# Altium schematic symbol library SCH_lib.SchLib: 19 symbols
Pins are listed as number, name and electrical type; pins without a type are passive.

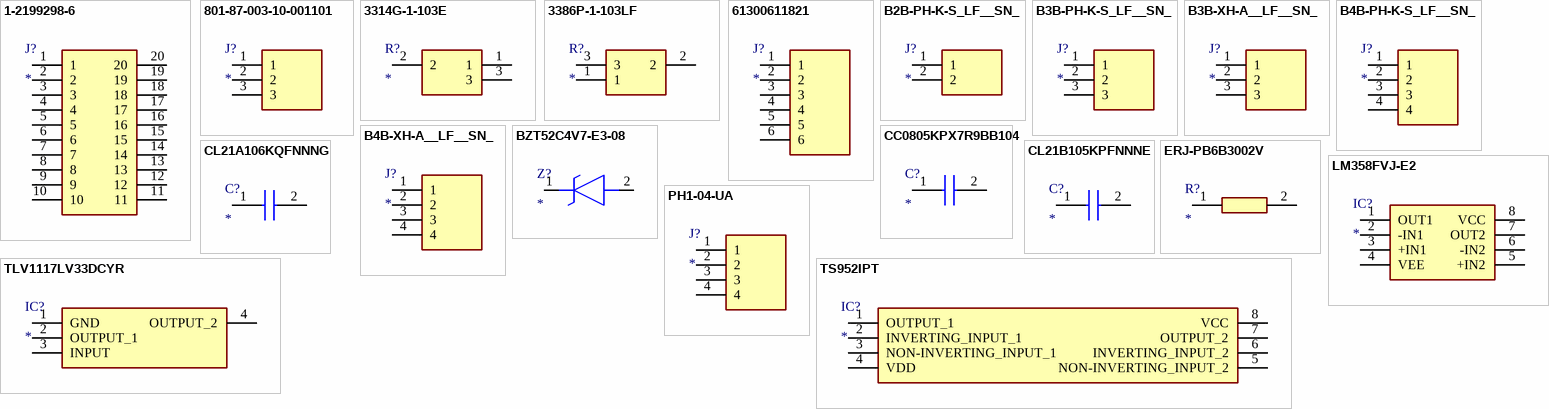
[diagram p0: symbols 1-2199298-6 to TS952IPT]

## 1-2199298-6
designator J?
Connector; Manufacturer_Name: TE Connectivity; Manufacturer_Part_Number: 1-2199298-6; Datasheet Link: https://www.te.com/commerce/DocumentDelivery/DDEController?Action=showdoc&DocId=Customer+Drawing%7F2199298%7FA%7Fpdf%7FEnglish%7FENG_CD_2199298_A_baseFilename.pdf%7F1-2199298-6; Height: 5.1mm; Mouser Part Number: 571-1-2199298-6; Mouser Price/Stock: https://www.mouser.co.uk/ProductDetail/TE-Connectivity/1-2199298-6?qs=fK8dlpkaUMvuMXpJTs4GlA%3D%3D; Arrow Part Number: 1-2199298-6; Arrow Price/Stock: https://www.arrow.com/en/products/1-2199298-6/te-connectivity?region=europe
footprint DIPS762W70P254L2540H510Q20N
pins: 1, 2, 3, 4, 5, 6, 7, 8, 9, 10, 11, 12, 13, 14, 15, 16, 17, 18, 19, 20

## 801-87-003-10-001101
designator J?
Connector; Manufacturer_Name: Preci-Dip; Manufacturer_Part_Number: 801-87-003-10-001101; Datasheet Link: http://www.precidip.com/en/Products/PCB-Connectors/pview/801-PP-NNN-10-001101.html; Height: 7mm; Mouser Part Number: 437-8018700310001101; Mouser Price/Stock: https://www.mouser.co.uk/ProductDetail/Preci-dip/801-87-003-10-001101?qs=FtMuP6KVi2T66jAxB5rZkg%3D%3D; Arrow Part Number: 801-87-003-10-001101; Arrow Price/Stock: https://www.arrow.com/en/products/801-87-003-10-001101/preci-dip-sa
footprint RHDR3W60P0X254_1X3_762X254X700P
pins: 1, 2, 3

## 3314G-1-103E
designator R?
Resistor; Manufacturer_Name: Bourns; Manufacturer_Part_Number: 3314G-1-103E; Description: 3314G SMT top adj cermet trimmer,10K 4mm Bourns 3314G Series SMD Cermet Trimmer Resistor with Gull Wing Terminations; Datasheet Link: https://componentsearchengine.com/Datasheets/2/3314G-1-103E.pdf; Mouser Part Number: 652-3314G-1-103E; Mouser Price/Stock: https://www.mouser.co.uk/ProductDetail/Bourns/3314G-1-103E?qs=5DXzRwmrLHHE6mxfh4g4uw%3D%3D; Arrow Part Number: 3314G-1-103E; Arrow Price/Stock: https://www.arrow.com/en/products/3314g-1-103e/bourns?region=europe
footprint 3314G-1-102E
pins: 1, 2, 3

## 3386P-1-103LF
designator R?
Resistor; Manufacturer_Name: Bourns; Manufacturer_Part_Number: 3386P-1-103LF; Description: Bourns 3386P Series Through Hole Trimmer Resistor with Pin Terminations; Datasheet Link: https://www.bourns.com/pdfs/3386.pdf; Mouser Part Number: 652-3386P-1-103LF; Mouser Price/Stock: https://www.mouser.co.uk/ProductDetail/Bourns/3386P-1-103LF?qs=m2uG%2FFdTAPWTJ6kNGJOVuA%3D%3D; Arrow Part Number: 3386P-1-103LF; Arrow Price/Stock: https://www.arrow.com/en/products/3386p-1-103lf/bourns?region=europe
footprint 3386P_1
pins: 1, 2, 3

## 61300611821
designator J?
Connector; Manufacturer_Name: Wurth Elektronik; Manufacturer_Part_Number: 61300611821; Datasheet Link: https://www.we-online.de/katalog/datasheet/61300611821.pdf; Height: 8.65mm; Mouser Part Number: 710-61300611821; Mouser Price/Stock: https://www.mouser.co.uk/ProductDetail/Wurth-Elektronik/61300611821?qs=iLbezkQI%252BsgS21jF2eozhA%3D%3D
footprint RHDR6W97P0X254_1X6_1574X250X865P
pins: 1, 2, 3, 4, 5, 6

## B2B-PH-K-S_LF__SN_
designator J?
Connector; Manufacturer_Name: JST (JAPAN SOLDERLESS TERMINALS); Manufacturer_Part_Number: B2B-PH-K-S(LF)(SN); Datasheet Link: https://datasheet.lcsc.com/szlcsc/JST-Sales-America-B2B-PH-K-S-LF-SN_C131337.pdf; Height: 6mm; Arrow Part Number: B2B-PH-K-S(LF)(SN); Arrow Price/Stock: https://www.arrow.com/en/products/b2b-ph-k-s-lf-sn/jst-manufacturing?region=europe
footprint SHDR2W50P0X200_1X2_590X450X600P
pins: 1, 2

## B3B-PH-K-S_LF__SN_
designator J?
Connector; Manufacturer_Name: JST (JAPAN SOLDERLESS TERMINALS); Manufacturer_Part_Number: B3B-PH-K-S(LF)(SN); Description: WIRE-BOARD CONNECTOR; Datasheet Link: http://www.jst-mfg.com/product/pdf/eng/ePH.pdf; Height: 6mm; Arrow Part Number: B3B-PH-K-S(LF)(SN); Arrow Price/Stock: https://www.arrow.com/en/products/b3b-ph-k-s-lf-sn/jst-manufacturing?region=europe
footprint SHDR3W50P0X200_1X3_790X450X600P
pins: 1, 2, 3

## B3B-XH-A__LF__SN_
designator J?
Connector; Manufacturer_Name: JST (JAPAN SOLDERLESS TERMINALS); Manufacturer_Part_Number: B3B-XH-A (LF)(SN); Datasheet Link: http://www.jst-mfg.com/product/pdf/eng/eXH.pdf; Height: 7mm
footprint SHDR3W64P0X250_1X3_990X575X700P
pins: 1, 2, 3

## B4B-PH-K-S_LF__SN_
designator J?
Connector; Manufacturer_Name: JST (JAPAN SOLDERLESS TERMINALS); Manufacturer_Part_Number: B4B-PH-K-S(LF)(SN); Description: Conn Shrouded Header (4 Sides) HDR 4 POS 2mm Solder ST Top Entry Thru-Hole Box; Datasheet Link: https://datasheet.lcsc.com/szlcsc/JST-Sales-America-B4B-PH-K-S-LF-SN_C131334.pdf; Height: 6mm; Arrow Part Number: B4B-PH-K-S(LF)(SN); Arrow Price/Stock: https://www.arrow.com/en/products/b4b-ph-k-s-lf-sn/jst-manufacturing?region=europe
footprint SHDR4W50P0X200_1X4_990X450X600P
pins: 1, 2, 3, 4

## B4B-XH-A__LF__SN_
designator J?
Connector; Manufacturer_Name: JST (JAPAN SOLDERLESS TERMINALS); Manufacturer_Part_Number: B4B-XH-A (LF)(SN); Datasheet Link: https://componentsearchengine.com/Datasheets/2/B4B-XH-A (LF)(SN).pdf; Height: 7mm; Arrow Part Number: B4B-XH-A (LF)(SN); Arrow Price/Stock: https://www.arrow.com/en/products/b4b-xh-a-lf-sn/jst-manufacturing?region=europe
footprint SHDR4W64P0X250_1X4_1240X575X700P
pins: 1, 2, 3, 4

## BZT52C4V7-E3-08
designator Z?
Zener Diode; Manufacturer_Part_Number: BZT52C4V7-E3-08; Description: Vishay; Datasheet Link: https://www.arrow.com/en/products/bzt52c4v7-e3-08/vishay; Height: 1.35mm; Manufacturer_Name: Vishay; Mouser Part Number: 78-BZT52C4V7-E3-08; Mouser Price/Stock: https://www.mouser.co.uk/ProductDetail/Vishay-Semiconductors/BZT52C4V7-E3-08?qs=KP8Io%2FXyE5QGkCdlrdvYmA%3D%3D; Arrow Part Number: BZT52C4V7-E3-08; Arrow Price/Stock: https://www.arrow.com/en/products/bzt52c4v7-e3-08/vishay
footprint SOD3716X135N
pins: 1 K, 2 A

## CC0805KPX7R9BB104
designator C?
Capacitor; Manufacturer_Name: YAGEO; Manufacturer_Part_Number: CC0805KPX7R9BB104; Datasheet Link: https://www.yageo.com/upload/media/product/productsearch/datasheet/mlcc/UPY-GPHC_X7R_6.3V-to-250V_22.pdf; Height: 0.95mm; Mouser Part Number: 603-CC805KPX7R9BB104; Mouser Price/Stock: https://www.mouser.co.uk/ProductDetail/YAGEO/CC0805KPX7R9BB104?qs=vTakOoo5QyLPWGiom%252Bf2Ug%3D%3D
footprint CAPC2012X95N
pins: 1, 2

## CL21A106KQFNNNG
designator C?
Capacitor; Manufacturer_Name: SAMSUNG; Manufacturer_Part_Number: CL21A106KQFNNNG; Datasheet Link: https://octopart.com/cl21a106kpfnnne-samsung-9301557?gclid=EAIaIQobChMIppmoo53d5wIV14XVCh0LRA8uEAAYAiAAEgJJyPD_BwE; Height: 1.35mm; Mouser Part Number: 187-CL21A106KQFNNNG; Mouser Price/Stock: https://www.mouser.co.uk/ProductDetail/Samsung-Electro-Mechanics/CL21A106KQFNNNG?qs=hqM3L16%252Bxle4yU%252BqidqWig%3D%3D; Arrow Part Number: CL21A106KQFNNNG; Arrow Price/Stock: https://www.arrow.com/en/products/cl21a106kqfnnng/samsung-electro-mechanics?region=nac
footprint CAPC2012X135N
pins: 1, 2

## CL21B105KPFNNNE
designator C?
Capacitor; Manufacturer_Name: SAMSUNG; Manufacturer_Part_Number: CL21B105KPFNNNE; Datasheet Link: https://datasheet.datasheetarchive.com/originals/distributors/Datasheets_SAMA/2d87a2a5c85914a1c305fff6363ab8b8.pdf; Height: 1.35mm; Mouser Part Number: 187-CL21B105KPFNNNE; Mouser Price/Stock: https://www.mouser.co.uk/ProductDetail/Samsung-Electro-Mechanics/CL21B105KPFNNNE?qs=349EhDEZ59rb3V94UrmRdQ%3D%3D; Arrow Part Number: CL21B105KPFNNNE; Arrow Price/Stock: https://www.arrow.com/en/products/cl21b105kpfnnne/samsung-electro-mechanics?region=nac
footprint CAPC2012X135N
pins: 1, 2

## ERJ-PB6B3002V
designator R?
Resistor; Manufacturer_Name: Panasonic; Manufacturer_Part_Number: ERJ-PB6B3002V; Datasheet Link: https://componentsearchengine.com/Datasheets/1/ERJ-PB6B3002V.pdf; Height: 0.7mm; Mouser Part Number: 667-ERJ-PB6B3002V; Mouser Price/Stock: https://www.mouser.co.uk/ProductDetail/Panasonic/ERJ-PB6B3002V?qs=eFOtW6xYNWHxFAxx7HWdpg%3D%3D; Arrow Part Number: ERJ-PB6B3002V; Arrow Price/Stock: https://www.arrow.com/en/products/erj-pb6b3002v/panasonic?region=nac
footprint RESC2012X70N
pins: 1, 2

## LM358FVJ-E2
designator IC?
Integrated Circuit; Manufacturer_Name: ROHM Semiconductor; Manufacturer_Part_Number: LM358FVJ-E2; Description: Operational Amplifiers - Op Amps Ind 2Ch 3-32V Ground Sense; Datasheet Link: https://fscdn.rohm.com/en/products/databook/datasheet/ic/amp_linear/opamp/lm358f-e.pdf; Height: 1.1mm; Mouser Part Number: 755-LM358FVJ-E2; Mouser Price/Stock: https://www.mouser.co.uk/ProductDetail/ROHM-Semiconductor/LM358FVJ-E2?qs=4v%252BiZTmLVHEps3y6sLZQgg%3D%3D
footprint SOP65P490X110-8N
pins: 1 OUT1, 2 -IN1, 3 +IN1, 4 VEE, 5 +IN2, 6 -IN2, 7 OUT2, 8 VCC

## PH1-04-UA
designator J?
Connector; Manufacturer_Name: Adam Tech; Manufacturer_Part_Number: PH1-04-UA; Description: CONN HEADER VERT 4POS 2.54MM; Datasheet Link: https://datasheet.datasheetarchive.com/originals/distributors/Datasheets_SAMA/22522227e000bb8d8f26a3580c1bb98b.pdf; Height: 9.008mm; Mouser Part Number: 737-PH1-04-UA; Mouser Price/Stock: https://www.mouser.co.uk/ProductDetail/Adam-Tech/PH1-04-UA?qs=HoCaDK9Nz5fnp3pp8iwrSQ%3D%3D; Arrow Part Number: PH1-04-UA; Arrow Price/Stock: https://www.arrow.com/en/products/ph1-04-ua/adam-tech?region=nac
footprint HDRV4W64P0X254_1X4_1016X250X901P
pins: 1, 2, 3, 4

## TLV1117LV33DCYR
designator IC?
Integrated Circuit; Manufacturer_Name: Texas Instruments; Manufacturer_Part_Number: TLV1117LV33DCYR; Datasheet Link: http://www.ti.com/lit/gpn/tlv1117lv; Height: 1.8mm; Mouser Part Number: 595-TLV1117LV33DCYR; Mouser Price/Stock: https://www.mouser.co.uk/ProductDetail/Texas-Instruments/TLV1117LV33DCYR?qs=tEz3BkPb1rwzXMb8FiWhow%3D%3D; Arrow Part Number: TLV1117LV33DCYR; Arrow Price/Stock: https://www.arrow.com/en/products/tlv1117lv33dcyr/texas-instruments?region=nac
footprint SOT230P700X180-4N
pins: 1 GND, 2 OUTPUT_1, 3 INPUT, 4 OUTPUT_2

## TS952IPT
designator IC?
Integrated Circuit; Manufacturer_Name: STMicroelectronics; Manufacturer_Part_Number: TS952IPT; Description: STMicroelectronics TS952IPT; Datasheet Link: https://4donline.ihs.com/images/VipMasterIC/IC/SGST/SGST-S-A0000954157/SGST-S-A0000803870-1.pdf?hkey=52A5661711E402568146F3353EA87419; Height: 1.2mm; Mouser Part Number: 511-TS952IP; Mouser Price/Stock: https://www.mouser.co.uk/ProductDetail/STMicroelectronics/TS952IPT?qs=FhojHmVgQovQNpIMuhf0yA%3D%3D; Arrow Part Number: TS952IPT; Arrow Price/Stock: https://www.arrow.com/en/products/ts952ipt/stmicroelectronics
footprint SOP65P640X120-8N
pins: 1 OUTPUT_1, 2 INVERTING_INPUT_1, 3 NON-INVERTING_INPUT_1, 4 VDD, 5 NON-INVERTING_INPUT_2, 6 INVERTING_INPUT_2, 7 OUTPUT_2, 8 VCC